# Altium schematic symbol library jlcpcb_2025_04_capacitors_extended_1812.schlib: 342 symbols (part 1 of 7)
Pins are listed as number, name and electrical type; pins without a type are passive.

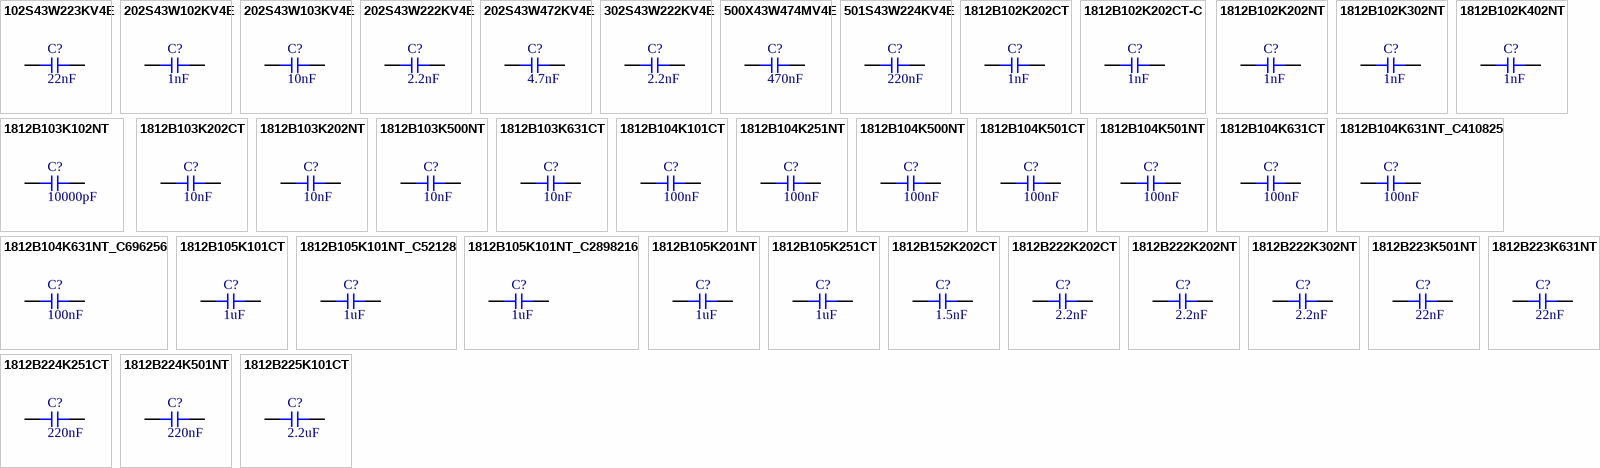
[diagram p0: symbols 102S43W223KV4E to 1812B225K101CT]

## 102S43W223KV4E
designator C?  Capacitance: 22nF  (hidden comment: *)
Capacitor, Ceramic (MLCC), 22nF, ±10%, 1kV, X7R, ±10%, SMD 1812; Manufacturer: Johanson Dielectrics; Manufacturer Part Number: 102S43W223KV4E; Package Size: 1812; JLCPCB Basic Part: No; JLCPCB Part Number: C426627; Supplier 1: LCSC; Category: Capacitors - MLCC; Supplier Part Number 1: C426627; Tolerance: ±10%; Voltage Rating: 1kV; Temperature Coefficient: X7R; RoHS: Yes; ComponentLink1Description: Datasheet; ComponentLink1URL: https://wmsc.lcsc.com/wmsc/upload/file/pdf/v2/lcsc/2304140030_Johanson-Dielectrics-102S43W223KV4E_C426627.pdf; ComponentLink2Description: JLCPCB Part URL; ComponentLink2URL: https://jlcpcb.com/partdetail/C426627; ComponentLink3Description: LCSC Part URL; ComponentLink3URL: https://lcsc.com/product-detail/Multilayer-Ceramic-Capacitors-MLCC---SMD-SMT_Johanson-Dielectrics-Johanson-Dielectrics-102S43W223KV4E_C426627.html
footprint CAP-1812 (1812 (4532M) Capacitor)
pins: 1, 2

## 202S43W102KV4E
designator C?  Capacitance: 1nF  (hidden comment: *)
Capacitor, Ceramic (MLCC), 1nF, ±10%, 2kV, X7R, ±10%, SMD 1812; Manufacturer: Johanson Dielectrics; Manufacturer Part Number: 202S43W102KV4E; Package Size: 1812; JLCPCB Basic Part: No; JLCPCB Part Number: C173229; Supplier 1: LCSC; Category: Capacitors - MLCC; Supplier Part Number 1: C173229; Tolerance: ±10%; Voltage Rating: 2kV; Temperature Coefficient: X7R; RoHS: Yes; ComponentLink1Description: Datasheet; ComponentLink1URL: https://wmsc.lcsc.com/wmsc/upload/file/pdf/v2/lcsc/1809172047_Johanson-Dielectrics-202S43W102KV4E_C173229.pdf; ComponentLink2Description: JLCPCB Part URL; ComponentLink2URL: https://jlcpcb.com/partdetail/C173229; ComponentLink3Description: LCSC Part URL; ComponentLink3URL: https://lcsc.com/product-detail/Multilayer-Ceramic-Capacitors-MLCC---SMD-SMT_Johanson-Dielectrics-Johanson-Dielectrics-202S43W102KV4E_C173229.html
footprint CAP-1812 (1812 (4532M) Capacitor)
pins: 1, 2

## 202S43W103KV4E
designator C?  Capacitance: 10nF  (hidden comment: *)
Capacitor, Ceramic (MLCC), 10nF, ±10%, 2kV, X7R, ±10%, SMD 1812; Manufacturer: Johanson Dielectrics; Manufacturer Part Number: 202S43W103KV4E; Package Size: 1812; JLCPCB Basic Part: No; JLCPCB Part Number: C426626; Supplier 1: LCSC; Category: Capacitors - MLCC; Supplier Part Number 1: C426626; Tolerance: ±10%; Voltage Rating: 2kV; Temperature Coefficient: X7R; RoHS: Yes; ComponentLink1Description: Datasheet; ComponentLink1URL: https://wmsc.lcsc.com/wmsc/upload/file/pdf/v2/lcsc/2304140030_Johanson-Dielectrics-202S43W103KV4E_C426626.pdf; ComponentLink2Description: JLCPCB Part URL; ComponentLink2URL: https://jlcpcb.com/partdetail/C426626; ComponentLink3Description: LCSC Part URL; ComponentLink3URL: https://lcsc.com/product-detail/Multilayer-Ceramic-Capacitors-MLCC---SMD-SMT_Johanson-Dielectrics-Johanson-Dielectrics-202S43W103KV4E_C426626.html
footprint CAP-1812 (1812 (4532M) Capacitor)
pins: 1, 2

## 202S43W222KV4E
designator C?  Capacitance: 2.2nF  (hidden comment: *)
Capacitor, Ceramic (MLCC), 2.2nF, ±10%, 2kV, X7R, ±10%, SMD 1812; Manufacturer: Johanson Dielectrics; Manufacturer Part Number: 202S43W222KV4E; Package Size: 1812; JLCPCB Basic Part: No; JLCPCB Part Number: C426624; Supplier 1: LCSC; Category: Capacitors - MLCC; Supplier Part Number 1: C426624; Tolerance: ±10%; Voltage Rating: 2kV; Temperature Coefficient: X7R; RoHS: Yes; ComponentLink1Description: Datasheet; ComponentLink1URL: https://wmsc.lcsc.com/wmsc/upload/file/pdf/v2/lcsc/2304140030_Johanson-Dielectrics-202S43W222KV4E_C426624.pdf; ComponentLink2Description: JLCPCB Part URL; ComponentLink2URL: https://jlcpcb.com/partdetail/C426624; ComponentLink3Description: LCSC Part URL; ComponentLink3URL: https://lcsc.com/product-detail/Multilayer-Ceramic-Capacitors-MLCC---SMD-SMT_Johanson-Dielectrics-Johanson-Dielectrics-202S43W222KV4E_C426624.html
footprint CAP-1812 (1812 (4532M) Capacitor)
pins: 1, 2

## 202S43W472KV4E
designator C?  Capacitance: 4.7nF  (hidden comment: *)
Capacitor, Ceramic (MLCC), 4.7nF, ±10%, 2kV, X7R, ±10%, SMD 1812; Manufacturer: Johanson Dielectrics; Manufacturer Part Number: 202S43W472KV4E; Package Size: 1812; JLCPCB Basic Part: No; JLCPCB Part Number: C167436; Supplier 1: LCSC; Category: Capacitors - MLCC; Supplier Part Number 1: C167436; Tolerance: ±10%; Voltage Rating: 2kV; Temperature Coefficient: X7R; RoHS: Yes; ComponentLink1Description: Datasheet; ComponentLink1URL: https://wmsc.lcsc.com/wmsc/upload/file/pdf/v2/lcsc/2304140030_Johanson-Dielectrics-202S43W472KV4E_C167436.pdf; ComponentLink2Description: JLCPCB Part URL; ComponentLink2URL: https://jlcpcb.com/partdetail/C167436; ComponentLink3Description: LCSC Part URL; ComponentLink3URL: https://lcsc.com/product-detail/Multilayer-Ceramic-Capacitors-MLCC---SMD-SMT_Johanson-Dielectrics-Johanson-Dielectrics-202S43W472KV4E_C167436.html
footprint CAP-1812 (1812 (4532M) Capacitor)
pins: 1, 2

## 302S43W222KV4E
designator C?  Capacitance: 2.2nF  (hidden comment: *)
Capacitor, Ceramic (MLCC), 2.2nF, ±10%, 3kV, X7R, ±10%, SMD 1812; Manufacturer: Johanson Dielectrics; Manufacturer Part Number: 302S43W222KV4E; Package Size: 1812; JLCPCB Basic Part: No; JLCPCB Part Number: C426625; Supplier 1: LCSC; Category: Capacitors - MLCC; Supplier Part Number 1: C426625; Tolerance: ±10%; Voltage Rating: 3kV; Temperature Coefficient: X7R; RoHS: Yes; ComponentLink1Description: Datasheet; ComponentLink1URL: https://wmsc.lcsc.com/wmsc/upload/file/pdf/v2/lcsc/2304140030_Johanson-Dielectrics-302S43W222KV4E_C426625.pdf; ComponentLink2Description: JLCPCB Part URL; ComponentLink2URL: https://jlcpcb.com/partdetail/C426625; ComponentLink3Description: LCSC Part URL; ComponentLink3URL: https://lcsc.com/product-detail/Multilayer-Ceramic-Capacitors-MLCC---SMD-SMT_Johanson-Dielectrics-Johanson-Dielectrics-302S43W222KV4E_C426625.html
footprint CAP-1812 (1812 (4532M) Capacitor)
pins: 1, 2

## 500X43W474MV4E
designator C?  Capacitance: 470nF  (hidden comment: *)
Capacitor, Ceramic (MLCC), 470nF, ±20%, 50V, X7R, ±20%, SMD 1812; Manufacturer: Johanson Dielectrics; Manufacturer Part Number: 500X43W474MV4E; Package Size: 1812; JLCPCB Basic Part: No; JLCPCB Part Number: C2168087; Supplier 1: LCSC; Category: Capacitors - MLCC; Supplier Part Number 1: C2168087; Tolerance: ±20%; Voltage Rating: 50V; Temperature Coefficient: X7R; RoHS: Yes; ComponentLink1Description: Datasheet; ComponentLink1URL: https://wmsc.lcsc.com/wmsc/upload/file/pdf/v2/lcsc/2304140030_Johanson-Dielectrics-500X43W474MV4E_C2168087.pdf; ComponentLink2Description: JLCPCB Part URL; ComponentLink2URL: https://jlcpcb.com/partdetail/C2168087; ComponentLink3Description: LCSC Part URL; ComponentLink3URL: https://lcsc.com/product-detail/Multilayer-Ceramic-Capacitors-MLCC---SMD-SMT_Johanson-Dielectrics-Johanson-Dielectrics-500X43W474MV4E_C2168087.html
footprint CAP-1812 (1812 (4532M) Capacitor)
pins: 1, 2

## 501S43W224KV4E
designator C?  Capacitance: 220nF  (hidden comment: *)
Capacitor, Ceramic (MLCC), 220nF, ±10%, 500V, X7R, ±10%, SMD 1812; Manufacturer: Johanson Dielectrics; Manufacturer Part Number: 501S43W224KV4E; Package Size: 1812; JLCPCB Basic Part: No; JLCPCB Part Number: C426628; Supplier 1: LCSC; Category: Capacitors - MLCC; Supplier Part Number 1: C426628; Tolerance: ±10%; Voltage Rating: 500V; Temperature Coefficient: X7R; RoHS: Yes; ComponentLink1Description: Datasheet; ComponentLink1URL: https://wmsc.lcsc.com/wmsc/upload/file/pdf/v2/lcsc/2304140030_Johanson-Dielectrics-501S43W224KV4E_C426628.pdf; ComponentLink2Description: JLCPCB Part URL; ComponentLink2URL: https://jlcpcb.com/partdetail/C426628; ComponentLink3Description: LCSC Part URL; ComponentLink3URL: https://lcsc.com/product-detail/Multilayer-Ceramic-Capacitors-MLCC---SMD-SMT_Johanson-Dielectrics-Johanson-Dielectrics-501S43W224KV4E_C426628.html
footprint CAP-1812 (1812 (4532M) Capacitor)
pins: 1, 2

## 1812B102K202CT
designator C?  Capacitance: 1nF  (hidden comment: *)
Capacitor, Ceramic (MLCC), 1nF, ±10%, 2kV, X7R, ±10%, SMD 1812; Manufacturer: Walsin Tech Corp; Manufacturer Part Number: 1812B102K202CT; Package Size: 1812; JLCPCB Basic Part: No; JLCPCB Part Number: C304032; Supplier 1: LCSC; Category: Capacitors - MLCC; Supplier Part Number 1: C304032; Tolerance: ±10%; Voltage Rating: 2kV; Temperature Coefficient: X7R; RoHS: Yes; ComponentLink1Description: Datasheet; ComponentLink1URL: https://wmsc.lcsc.com/wmsc/upload/file/pdf/v2/lcsc/2304231850_Walsin-Tech-Corp-1812B102K202CT_C304032.pdf; ComponentLink2Description: JLCPCB Part URL; ComponentLink2URL: https://jlcpcb.com/partdetail/C304032; ComponentLink3Description: LCSC Part URL; ComponentLink3URL: https://lcsc.com/product-detail/Multilayer-Ceramic-Capacitors-MLCC---SMD-SMT_Walsin-Tech-Corp-Walsin-Tech-Corp-1812B102K202CT_C304032.html
footprint CAP-1812 (1812 (4532M) Capacitor)
pins: 1, 2

## 1812B102K202CT-C
designator C?  Capacitance: 1nF  (hidden comment: *)
Capacitor, Ceramic (MLCC), 1nF, ±10%, 2kV, X7R, ±10%, SMD 1812; Manufacturer: Walsin Tech Corp; Manufacturer Part Number: 1812B102K202CT-C; Package Size: 1812; JLCPCB Basic Part: No; JLCPCB Part Number: C2991364; Supplier 1: LCSC; Category: Capacitors - MLCC; Supplier Part Number 1: C2991364; Tolerance: ±10%; Voltage Rating: 2kV; Temperature Coefficient: X7R; RoHS: Yes; ComponentLink1Description: Datasheet; ComponentLink1URL: https://wmsc.lcsc.com/wmsc/upload/file/pdf/v2/lcsc/2204131745_Walsin-Tech-Corp-1812B102K202CT-C_C2991364.pdf; ComponentLink2Description: JLCPCB Part URL; ComponentLink2URL: https://jlcpcb.com/partdetail/C2991364; ComponentLink3Description: LCSC Part URL; ComponentLink3URL: https://lcsc.com/product-detail/Multilayer-Ceramic-Capacitors-MLCC---SMD-SMT_Walsin-Tech-Corp-Walsin-Tech-Corp-1812B102K202CT-C_C2991364.html
footprint CAP-1812 (1812 (4532M) Capacitor)
pins: 1, 2

## 1812B102K202NT
designator C?  Capacitance: 1nF  (hidden comment: *)
Capacitor, Ceramic (MLCC), 1nF, ±10%, 2kV, X7R, ±10%, SMD 1812; Manufacturer: FH(Guangdong Fenghua Advanced Tech); Manufacturer Part Number: 1812B102K202NT; Package Size: 1812; JLCPCB Basic Part: No; JLCPCB Part Number: C36077; Supplier 1: LCSC; Category: Capacitors - MLCC; Supplier Part Number 1: C36077; Tolerance: ±10%; Voltage Rating: 2kV; Temperature Coefficient: X7R; RoHS: Yes; ComponentLink1Description: Datasheet; ComponentLink1URL: https://wmsc.lcsc.com/wmsc/upload/file/pdf/v2/lcsc/2304140030_FH--Guangdong-Fenghua-Advanced-Tech-1812B102K202NT_C36077.pdf; ComponentLink2Description: JLCPCB Part URL; ComponentLink2URL: https://jlcpcb.com/partdetail/C36077; ComponentLink3Description: LCSC Part URL; ComponentLink3URL: https://lcsc.com/product-detail/Multilayer-Ceramic-Capacitors-MLCC---SMD-SMT_FH-Guangdong-Fenghua-Advanced-Tech-FH-Guangdong-Fenghua-Advanced-Tech-1812B102K202NT_C36077.html
footprint CAP-1812 (1812 (4532M) Capacitor)
pins: 1, 2

## 1812B102K302NT
designator C?  Capacitance: 1nF  (hidden comment: *)
Capacitor, Ceramic (MLCC), 1nF, ±10%, 3kV, X7R, ±10%, SMD 1812; Manufacturer: FH (Guangdong Fenghua Advanced Tech); Manufacturer Part Number: 1812B102K302NT; Package Size: 1812; JLCPCB Basic Part: No; JLCPCB Part Number: C2961281; Supplier 1: LCSC; Category: Capacitors - MLCC; Supplier Part Number 1: C2961281; Tolerance: ±10%; Voltage Rating: 3kV; Temperature Coefficient: X7R; RoHS: Yes; ComponentLink1Description: Datasheet; ComponentLink1URL: https://wmsc.lcsc.com/wmsc/upload/file/pdf/v2/lcsc/2203011530_FH--Guangdong-Fenghua-Advanced-Tech-1812B102K302NT_C2961281.pdf; ComponentLink2Description: JLCPCB Part URL; ComponentLink2URL: https://jlcpcb.com/partdetail/C2961281; ComponentLink3Description: LCSC Part URL; ComponentLink3URL: https://lcsc.com/product-detail/Multilayer-Ceramic-Capacitors-MLCC---SMD-SMT_FH-Guangdong-Fenghua-Advanced-Tech-FH-Guangdong-Fenghua-Advanced-Tech-1812B102K302NT_C2961281.html
footprint CAP-1812 (1812 (4532M) Capacitor)
pins: 1, 2

## 1812B102K402NT
designator C?  Capacitance: 1nF  (hidden comment: *)
Capacitor, Ceramic (MLCC), 1nF, ±10%, 4kV, X7R, ±10%, SMD 1812; Manufacturer: FH(Guangdong Fenghua Advanced Tech); Manufacturer Part Number: 1812B102K402NT; Package Size: 1812; JLCPCB Basic Part: No; JLCPCB Part Number: C182470; Supplier 1: LCSC; Category: Capacitors - MLCC; Supplier Part Number 1: C182470; Tolerance: ±10%; Voltage Rating: 4kV; Temperature Coefficient: X7R; RoHS: Yes; ComponentLink1Description: Datasheet; ComponentLink1URL: https://wmsc.lcsc.com/wmsc/upload/file/pdf/v2/lcsc/1810301121_FH--Guangdong-Fenghua-Advanced-Tech-1812B102K402NT_C182470.pdf; ComponentLink2Description: JLCPCB Part URL; ComponentLink2URL: https://jlcpcb.com/partdetail/C182470; ComponentLink3Description: LCSC Part URL; ComponentLink3URL: https://lcsc.com/product-detail/Multilayer-Ceramic-Capacitors-MLCC---SMD-SMT_FH-Guangdong-Fenghua-Advanced-Tech-FH-Guangdong-Fenghua-Advanced-Tech-1812B102K402NT_C182470.html
footprint CAP-1812 (1812 (4532M) Capacitor)
pins: 1, 2

## 1812B103K102NT
designator C?  Capacitance: 10000pF  (hidden comment: *)
Capacitor, Ceramic (MLCC), 10000pF, ±10%, 1kV, X7R, ±10%, SMD 1812; Manufacturer: FH (Guangdong Fenghua Advanced Tech); Manufacturer Part Number: 1812B103K102NT; Package Size: 1812; JLCPCB Basic Part: No; JLCPCB Part Number: C779668; Supplier 1: LCSC; Category: Capacitors - MLCC; Supplier Part Number 1: C779668; Tolerance: ±10%; Voltage Rating: 1kV; Temperature Coefficient: X7R; RoHS: Yes; ComponentLink1Description: Datasheet; ComponentLink1URL: https://wmsc.lcsc.com/wmsc/upload/file/pdf/v2/lcsc/2304140030_FH--Guangdong-Fenghua-Advanced-Tech-1812B103K102NT_C779668.pdf; ComponentLink2Description: JLCPCB Part URL; ComponentLink2URL: https://jlcpcb.com/partdetail/C779668; ComponentLink3Description: LCSC Part URL; ComponentLink3URL: https://lcsc.com/product-detail/Multilayer-Ceramic-Capacitors-MLCC---SMD-SMT_FH-Guangdong-Fenghua-Advanced-Tech-FH-Guangdong-Fenghua-Advanced-Tech-1812B103K102NT_C779668.html
footprint CAP-1812 (1812 (4532M) Capacitor)
pins: 1, 2

## 1812B103K202CT
designator C?  Capacitance: 10nF  (hidden comment: *)
Capacitor, Ceramic (MLCC), 10nF, ±10%, 2kV, X7R, ±10%, SMD 1812; Manufacturer: Walsin Tech Corp; Manufacturer Part Number: 1812B103K202CT; Package Size: 1812; JLCPCB Basic Part: No; JLCPCB Part Number: C20037; Supplier 1: LCSC; Category: Capacitors - MLCC; Supplier Part Number 1: C20037; Tolerance: ±10%; Voltage Rating: 2kV; Temperature Coefficient: X7R; RoHS: Yes; ComponentLink1Description: Datasheet; ComponentLink2Description: JLCPCB Part URL; ComponentLink2URL: https://jlcpcb.com/partdetail/C20037; ComponentLink3Description: LCSC Part URL; ComponentLink3URL: https://lcsc.com/product-detail/Multilayer-Ceramic-Capacitors-MLCC---SMD-SMT_Walsin-Tech-Corp-Walsin-Tech-Corp-1812B103K202CT_C20037.html
footprint CAP-1812 (1812 (4532M) Capacitor)
pins: 1, 2

## 1812B103K202NT
designator C?  Capacitance: 10nF  (hidden comment: *)
Capacitor, Ceramic (MLCC), 10nF, ±10%, 2kV, X7R, ±10%, SMD 1812; Manufacturer: FH(Guangdong Fenghua Advanced Tech); Manufacturer Part Number: 1812B103K202NT; Package Size: 1812; JLCPCB Basic Part: No; JLCPCB Part Number: C574051; Supplier 1: LCSC; Category: Capacitors - MLCC; Supplier Part Number 1: C574051; Tolerance: ±10%; Voltage Rating: 2kV; Temperature Coefficient: X7R; RoHS: Yes; ComponentLink1Description: Datasheet; ComponentLink1URL: https://wmsc.lcsc.com/wmsc/upload/file/pdf/v2/lcsc/2304140030_FH--Guangdong-Fenghua-Advanced-Tech-1812B103K202NT_C574051.pdf; ComponentLink2Description: JLCPCB Part URL; ComponentLink2URL: https://jlcpcb.com/partdetail/C574051; ComponentLink3Description: LCSC Part URL; ComponentLink3URL: https://lcsc.com/product-detail/Multilayer-Ceramic-Capacitors-MLCC---SMD-SMT_FH-Guangdong-Fenghua-Advanced-Tech-FH-Guangdong-Fenghua-Advanced-Tech-1812B103K202NT_C574051.html
footprint CAP-1812 (1812 (4532M) Capacitor)
pins: 1, 2

## 1812B103K500NT
designator C?  Capacitance: 10nF  (hidden comment: *)
Capacitor, Ceramic (MLCC), 10nF, ±10%, 50V, ±10%, SMD 1812; Manufacturer: FH(Guangdong Fenghua Advanced Tech); Manufacturer Part Number: 1812B103K500NT; Package Size: 1812; JLCPCB Basic Part: No; JLCPCB Part Number: C967611; Supplier 1: LCSC; Category: Capacitors - MLCC; Supplier Part Number 1: C967611; Tolerance: ±10%; Voltage Rating: 50V; RoHS: Yes; ComponentLink1Description: Datasheet; ComponentLink1URL: https://wmsc.lcsc.com/wmsc/upload/file/pdf/v2/lcsc/2304140030_FH--Guangdong-Fenghua-Advanced-Tech-1812B103K500NT_C967611.pdf; ComponentLink2Description: JLCPCB Part URL; ComponentLink2URL: https://jlcpcb.com/partdetail/C967611; ComponentLink3Description: LCSC Part URL; ComponentLink3URL: https://lcsc.com/product-detail/Multilayer-Ceramic-Capacitors-MLCC---SMD-SMT_FH-Guangdong-Fenghua-Advanced-Tech-FH-Guangdong-Fenghua-Advanced-Tech-1812B103K500NT_C967611.html
footprint CAP-1812 (1812 (4532M) Capacitor)
pins: 1, 2

## 1812B103K631CT
designator C?  Capacitance: 10nF  (hidden comment: *)
Capacitor, Ceramic (MLCC), 10nF, ±10%, 630V, X7R, ±10%, SMD 1812; Manufacturer: Walsin Tech Corp; Manufacturer Part Number: 1812B103K631CT; Package Size: 1812; JLCPCB Basic Part: No; JLCPCB Part Number: C304033; Supplier 1: LCSC; Category: Capacitors - MLCC; Supplier Part Number 1: C304033; Tolerance: ±10%; Voltage Rating: 630V; Temperature Coefficient: X7R; RoHS: Yes; ComponentLink1Description: Datasheet; ComponentLink1URL: https://wmsc.lcsc.com/wmsc/upload/file/pdf/v2/lcsc/2304231850_Walsin-Tech-Corp-1812B103K631CT_C304033.pdf; ComponentLink2Description: JLCPCB Part URL; ComponentLink2URL: https://jlcpcb.com/partdetail/C304033; ComponentLink3Description: LCSC Part URL; ComponentLink3URL: https://lcsc.com/product-detail/Multilayer-Ceramic-Capacitors-MLCC---SMD-SMT_Walsin-Tech-Corp-Walsin-Tech-Corp-1812B103K631CT_C304033.html
footprint CAP-1812 (1812 (4532M) Capacitor)
pins: 1, 2

## 1812B104K101CT
designator C?  Capacitance: 100nF  (hidden comment: *)
Capacitor, Ceramic (MLCC), 100nF, ±10%, 100V, X7R, ±10%, SMD 1812; Manufacturer: Walsin Tech Corp; Manufacturer Part Number: 1812B104K101CT; Package Size: 1812; JLCPCB Basic Part: No; JLCPCB Part Number: C152995; Supplier 1: LCSC; Category: Capacitors - MLCC; Supplier Part Number 1: C152995; Tolerance: ±10%; Voltage Rating: 100V; Temperature Coefficient: X7R; RoHS: Yes; ComponentLink1Description: Datasheet; ComponentLink1URL: https://wmsc.lcsc.com/wmsc/upload/file/pdf/v2/lcsc/2304140030_Walsin-Tech-Corp-1812B104K101CT_C152995.pdf; ComponentLink2Description: JLCPCB Part URL; ComponentLink2URL: https://jlcpcb.com/partdetail/C152995; ComponentLink3Description: LCSC Part URL; ComponentLink3URL: https://lcsc.com/product-detail/Multilayer-Ceramic-Capacitors-MLCC---SMD-SMT_Walsin-Tech-Corp-Walsin-Tech-Corp-1812B104K101CT_C152995.html
footprint CAP-1812 (1812 (4532M) Capacitor)
pins: 1, 2

## 1812B104K251NT
designator C?  Capacitance: 100nF  (hidden comment: *)
Capacitor, Ceramic (MLCC), 100nF, ±10%, 250V, X7R, ±10%, SMD 1812; Manufacturer: FH(Guangdong Fenghua Advanced Tech); Manufacturer Part Number: 1812B104K251NT; Package Size: 1812; JLCPCB Basic Part: No; JLCPCB Part Number: C67989; Supplier 1: LCSC; Category: Capacitors - MLCC; Supplier Part Number 1: C67989; Tolerance: ±10%; Voltage Rating: 250V; Temperature Coefficient: X7R; RoHS: Yes; ComponentLink1Description: Datasheet; ComponentLink1URL: https://wmsc.lcsc.com/wmsc/upload/file/pdf/v2/lcsc/2304140030_FH--Guangdong-Fenghua-Advanced-Tech-1812B104K251NT_C67989.pdf; ComponentLink2Description: JLCPCB Part URL; ComponentLink2URL: https://jlcpcb.com/partdetail/C67989; ComponentLink3Description: LCSC Part URL; ComponentLink3URL: https://lcsc.com/product-detail/Multilayer-Ceramic-Capacitors-MLCC---SMD-SMT_FH-Guangdong-Fenghua-Advanced-Tech-FH-Guangdong-Fenghua-Advanced-Tech-1812B104K251NT_C67989.html
footprint CAP-1812 (1812 (4532M) Capacitor)
pins: 1, 2

## 1812B104K500NT
designator C?  Capacitance: 100nF  (hidden comment: *)
Capacitor, Ceramic (MLCC), 100nF, ±10%, 50V, ±10%, SMD 1812; Manufacturer: FH (Guangdong Fenghua Advanced Tech); Manufacturer Part Number: 1812B104K500NT; Package Size: 1812; JLCPCB Basic Part: No; JLCPCB Part Number: C967612; Supplier 1: LCSC; Category: Capacitors - MLCC; Supplier Part Number 1: C967612; Tolerance: ±10%; Voltage Rating: 50V; RoHS: Yes; ComponentLink1Description: Datasheet; ComponentLink1URL: https://wmsc.lcsc.com/wmsc/upload/file/pdf/v2/lcsc/2304140030_FH--Guangdong-Fenghua-Advanced-Tech-1812B104K500NT_C967612.pdf; ComponentLink2Description: JLCPCB Part URL; ComponentLink2URL: https://jlcpcb.com/partdetail/C967612; ComponentLink3Description: LCSC Part URL; ComponentLink3URL: https://lcsc.com/product-detail/Multilayer-Ceramic-Capacitors-MLCC---SMD-SMT_FH-Guangdong-Fenghua-Advanced-Tech-FH-Guangdong-Fenghua-Advanced-Tech-1812B104K500NT_C967612.html
footprint CAP-1812 (1812 (4532M) Capacitor)
pins: 1, 2

## 1812B104K501CT
designator C?  Capacitance: 100nF  (hidden comment: *)
Capacitor, Ceramic (MLCC), 100nF, ±10%, 500V, X7R, ±10%, SMD 1812; Manufacturer: Walsin Tech Corp; Manufacturer Part Number: 1812B104K501CT; Package Size: 1812; JLCPCB Basic Part: No; JLCPCB Part Number: C396818; Supplier 1: LCSC; Category: Capacitors - MLCC; Supplier Part Number 1: C396818; Tolerance: ±10%; Voltage Rating: 500V; Temperature Coefficient: X7R; RoHS: Yes; ComponentLink1Description: Datasheet; ComponentLink1URL: https://wmsc.lcsc.com/wmsc/upload/file/pdf/v2/lcsc/2304140030_Walsin-Tech-Corp-1812B104K501CT_C396818.pdf; ComponentLink2Description: JLCPCB Part URL; ComponentLink2URL: https://jlcpcb.com/partdetail/C396818; ComponentLink3Description: LCSC Part URL; ComponentLink3URL: https://lcsc.com/product-detail/Multilayer-Ceramic-Capacitors-MLCC---SMD-SMT_Walsin-Tech-Corp-Walsin-Tech-Corp-1812B104K501CT_C396818.html
footprint CAP-1812 (1812 (4532M) Capacitor)
pins: 1, 2

## 1812B104K501NT
designator C?  Capacitance: 100nF  (hidden comment: *)
Capacitor, Ceramic (MLCC), 100nF, ±10%, 500V, X7R, ±10%, SMD 1812; Manufacturer: FH (Guangdong Fenghua Advanced Tech); Manufacturer Part Number: 1812B104K501NT; Package Size: 1812; JLCPCB Basic Part: No; JLCPCB Part Number: C3037684; Supplier 1: LCSC; Category: Capacitors - MLCC; Supplier Part Number 1: C3037684; Tolerance: ±10%; Voltage Rating: 500V; Temperature Coefficient: X7R; RoHS: Yes; ComponentLink1Description: Datasheet; ComponentLink1URL: https://wmsc.lcsc.com/wmsc/upload/file/pdf/v2/lcsc/2206171645_FH--Guangdong-Fenghua-Advanced-Tech-1812B104K501NT_C3037684.pdf; ComponentLink2Description: JLCPCB Part URL; ComponentLink2URL: https://jlcpcb.com/partdetail/C3037684; ComponentLink3Description: LCSC Part URL; ComponentLink3URL: https://lcsc.com/product-detail/Multilayer-Ceramic-Capacitors-MLCC---SMD-SMT_FH-Guangdong-Fenghua-Advanced-Tech-FH-Guangdong-Fenghua-Advanced-Tech-1812B104K501NT_C3037684.html
footprint CAP-1812 (1812 (4532M) Capacitor)
pins: 1, 2

## 1812B104K631CT
designator C?  Capacitance: 100nF  (hidden comment: *)
Capacitor, Ceramic (MLCC), 100nF, ±10%, 630V, X7R, ±10%, SMD 1812; Manufacturer: Walsin Tech Corp; Manufacturer Part Number: 1812B104K631CT; Package Size: 1812; JLCPCB Basic Part: No; JLCPCB Part Number: C304034; Supplier 1: LCSC; Category: Capacitors - MLCC; Supplier Part Number 1: C304034; Tolerance: ±10%; Voltage Rating: 630V; Temperature Coefficient: X7R; RoHS: Yes; ComponentLink1Description: Datasheet; ComponentLink1URL: https://wmsc.lcsc.com/wmsc/upload/file/pdf/v2/lcsc/2304231850_Walsin-Tech-Corp-1812B104K631CT_C304034.pdf; ComponentLink2Description: JLCPCB Part URL; ComponentLink2URL: https://jlcpcb.com/partdetail/C304034; ComponentLink3Description: LCSC Part URL; ComponentLink3URL: https://lcsc.com/product-detail/Multilayer-Ceramic-Capacitors-MLCC---SMD-SMT_Walsin-Tech-Corp-Walsin-Tech-Corp-1812B104K631CT_C304034.html
footprint CAP-1812 (1812 (4532M) Capacitor)
pins: 1, 2

## 1812B104K631NT_C410825
designator C?  Capacitance: 100nF  (hidden comment: *)
Capacitor, Ceramic (MLCC), 100nF, ±10%, 630V, X7R, ±10%, SMD 1812; Manufacturer: FH(Guangdong Fenghua Advanced Tech); Manufacturer Part Number: 1812B104K631NT; Package Size: 1812; JLCPCB Basic Part: No; JLCPCB Part Number: C410825; Supplier 1: LCSC; Category: Capacitors - MLCC; Supplier Part Number 1: C410825; Tolerance: ±10%; Voltage Rating: 630V; Temperature Coefficient: X7R; RoHS: Yes; ComponentLink1Description: Datasheet; ComponentLink1URL: https://wmsc.lcsc.com/wmsc/upload/file/pdf/v2/lcsc/2304140030_FH--Guangdong-Fenghua-Advanced-Tech-1812B104K631NT_C410825.pdf; ComponentLink2Description: JLCPCB Part URL; ComponentLink2URL: https://jlcpcb.com/partdetail/C410825; ComponentLink3Description: LCSC Part URL; ComponentLink3URL: https://lcsc.com/product-detail/Multilayer-Ceramic-Capacitors-MLCC---SMD-SMT_FH-Guangdong-Fenghua-Advanced-Tech-FH-Guangdong-Fenghua-Advanced-Tech-1812B104K631NT_C410825.html
footprint CAP-1812 (1812 (4532M) Capacitor)
pins: 1, 2

## 1812B104K631NT_C696256
designator C?  Capacitance: 100nF  (hidden comment: *)
Capacitor, Ceramic (MLCC), 100nF, ±10%, 630V, X7R, ±10%, SMD 1812; Manufacturer: FH(Guangdong Fenghua Advanced Tech); Manufacturer Part Number: 1812B104K631NT; Package Size: 1812; JLCPCB Basic Part: No; JLCPCB Part Number: C696256; Supplier 1: LCSC; Category: Capacitors - MLCC; Supplier Part Number 1: C696256; Tolerance: ±10%; Voltage Rating: 630V; Temperature Coefficient: X7R; RoHS: Yes; ComponentLink1Description: Datasheet; ComponentLink1URL: https://wmsc.lcsc.com/wmsc/upload/file/pdf/v2/lcsc/2304140030_FH--Guangdong-Fenghua-Advanced-Tech-1812B104K631NT_C696256.pdf; ComponentLink2Description: JLCPCB Part URL; ComponentLink2URL: https://jlcpcb.com/partdetail/C696256; ComponentLink3Description: LCSC Part URL; ComponentLink3URL: https://lcsc.com/product-detail/Multilayer-Ceramic-Capacitors-MLCC---SMD-SMT_FH-Guangdong-Fenghua-Advanced-Tech-FH-Guangdong-Fenghua-Advanced-Tech-1812B104K631NT_C696256.html
footprint CAP-1812 (1812 (4532M) Capacitor)
pins: 1, 2

## 1812B105K101CT
designator C?  Capacitance: 1uF  (hidden comment: *)
Capacitor, Ceramic (MLCC), 1uF, ±10%, 100V, X7R, ±10%, SMD 1812; Manufacturer: Walsin Tech Corp; Manufacturer Part Number: 1812B105K101CT; Package Size: 1812; JLCPCB Basic Part: No; JLCPCB Part Number: C575465; Supplier 1: LCSC; Category: Capacitors - MLCC; Supplier Part Number 1: C575465; Tolerance: ±10%; Voltage Rating: 100V; Temperature Coefficient: X7R; RoHS: Yes; ComponentLink1Description: Datasheet; ComponentLink1URL: https://wmsc.lcsc.com/wmsc/upload/file/pdf/v2/lcsc/2304140030_Walsin-Tech-Corp-1812B105K101CT_C575465.pdf; ComponentLink2Description: JLCPCB Part URL; ComponentLink2URL: https://jlcpcb.com/partdetail/C575465; ComponentLink3Description: LCSC Part URL; ComponentLink3URL: https://lcsc.com/product-detail/Multilayer-Ceramic-Capacitors-MLCC---SMD-SMT_Walsin-Tech-Corp-Walsin-Tech-Corp-1812B105K101CT_C575465.html
footprint CAP-1812 (1812 (4532M) Capacitor)
pins: 1, 2

## 1812B105K101NT_C52128
designator C?  Capacitance: 1uF  (hidden comment: *)
Capacitor, Ceramic (MLCC), 1uF, ±10%, 100V, X7R, ±10%, SMD 1812; Manufacturer: FH(Guangdong Fenghua Advanced Tech); Manufacturer Part Number: 1812B105K101NT; Package Size: 1812; JLCPCB Basic Part: No; JLCPCB Part Number: C52128; Supplier 1: LCSC; Category: Capacitors - MLCC; Supplier Part Number 1: C52128; Tolerance: ±10%; Voltage Rating: 100V; Temperature Coefficient: X7R; RoHS: Yes; ComponentLink1Description: Datasheet; ComponentLink1URL: https://wmsc.lcsc.com/wmsc/upload/file/pdf/v2/lcsc/2304140030_FH--Guangdong-Fenghua-Advanced-Tech-1812B105K101NT_C52128.pdf; ComponentLink2Description: JLCPCB Part URL; ComponentLink2URL: https://jlcpcb.com/partdetail/C52128; ComponentLink3Description: LCSC Part URL; ComponentLink3URL: https://lcsc.com/product-detail/Multilayer-Ceramic-Capacitors-MLCC---SMD-SMT_FH-Guangdong-Fenghua-Advanced-Tech-FH-Guangdong-Fenghua-Advanced-Tech-1812B105K101NT_C52128.html
footprint CAP-1812 (1812 (4532M) Capacitor)
pins: 1, 2

## 1812B105K101NT_C2898216
designator C?  Capacitance: 1uF  (hidden comment: *)
Capacitor, Ceramic (MLCC), 1uF, ±10%, 100V, X7R, ±10%, SMD 1812; Manufacturer: FH (Guangdong Fenghua Advanced Tech); Manufacturer Part Number: 1812B105K101NT; Package Size: 1812; JLCPCB Basic Part: No; JLCPCB Part Number: C2898216; Supplier 1: LCSC; Category: Capacitors - MLCC; Supplier Part Number 1: C2898216; Tolerance: ±10%; Voltage Rating: 100V; Temperature Coefficient: X7R; RoHS: Yes; ComponentLink1Description: Datasheet; ComponentLink1URL: https://wmsc.lcsc.com/wmsc/upload/file/pdf/v2/lcsc/2109152030_FH--Guangdong-Fenghua-Advanced-Tech-1812B105K101NT_C2898216.pdf; ComponentLink2Description: JLCPCB Part URL; ComponentLink2URL: https://jlcpcb.com/partdetail/C2898216; ComponentLink3Description: LCSC Part URL; ComponentLink3URL: https://lcsc.com/product-detail/Multilayer-Ceramic-Capacitors-MLCC---SMD-SMT_FH-Guangdong-Fenghua-Advanced-Tech-FH-Guangdong-Fenghua-Advanced-Tech-1812B105K101NT_C2898216.html
footprint CAP-1812 (1812 (4532M) Capacitor)
pins: 1, 2

## 1812B105K201NT
designator C?  Capacitance: 1uF  (hidden comment: *)
Capacitor, Ceramic (MLCC), 1uF, ±10%, 200V, X7R, ±10%, SMD 1812; Manufacturer: FH (Guangdong Fenghua Advanced Tech); Manufacturer Part Number: 1812B105K201NT; Package Size: 1812; JLCPCB Basic Part: No; JLCPCB Part Number: C3037685; Supplier 1: LCSC; Category: Capacitors - MLCC; Supplier Part Number 1: C3037685; Tolerance: ±10%; Voltage Rating: 200V; Temperature Coefficient: X7R; RoHS: Yes; ComponentLink1Description: Datasheet; ComponentLink1URL: https://wmsc.lcsc.com/wmsc/upload/file/pdf/v2/lcsc/2206171645_FH--Guangdong-Fenghua-Advanced-Tech-1812B105K201NT_C3037685.pdf; ComponentLink2Description: JLCPCB Part URL; ComponentLink2URL: https://jlcpcb.com/partdetail/C3037685; ComponentLink3Description: LCSC Part URL; ComponentLink3URL: https://lcsc.com/product-detail/Multilayer-Ceramic-Capacitors-MLCC---SMD-SMT_FH-Guangdong-Fenghua-Advanced-Tech-FH-Guangdong-Fenghua-Advanced-Tech-1812B105K201NT_C3037685.html
footprint CAP-1812 (1812 (4532M) Capacitor)
pins: 1, 2

## 1812B105K251CT
designator C?  Capacitance: 1uF  (hidden comment: *)
Capacitor, Ceramic (MLCC), 1uF, ±10%, 250V, X7R, ±10%, SMD 1812; Manufacturer: Walsin Tech Corp; Manufacturer Part Number: 1812B105K251CT; Package Size: 1812; JLCPCB Basic Part: No; JLCPCB Part Number: C880758; Supplier 1: LCSC; Category: Capacitors - MLCC; Supplier Part Number 1: C880758; Tolerance: ±10%; Voltage Rating: 250V; Temperature Coefficient: X7R; RoHS: Yes; ComponentLink1Description: Datasheet; ComponentLink1URL: https://wmsc.lcsc.com/wmsc/upload/file/pdf/v2/lcsc/2304140030_Walsin-Tech-Corp-1812B105K251CT_C880758.pdf; ComponentLink2Description: JLCPCB Part URL; ComponentLink2URL: https://jlcpcb.com/partdetail/C880758; ComponentLink3Description: LCSC Part URL; ComponentLink3URL: https://lcsc.com/product-detail/Multilayer-Ceramic-Capacitors-MLCC---SMD-SMT_Walsin-Tech-Corp-Walsin-Tech-Corp-1812B105K251CT_C880758.html
footprint CAP-1812 (1812 (4532M) Capacitor)
pins: 1, 2

## 1812B152K202CT
designator C?  Capacitance: 1.5nF  (hidden comment: *)
Capacitor, Ceramic (MLCC), 1.5nF, ±10%, 2kV, X7R, ±10%, SMD 1812; Manufacturer: Walsin Tech Corp; Manufacturer Part Number: 1812B152K202CT; Package Size: 1812; JLCPCB Basic Part: No; JLCPCB Part Number: C3876303; Supplier 1: LCSC; Category: Capacitors - MLCC; Supplier Part Number 1: C3876303; Tolerance: ±10%; Voltage Rating: 2kV; Temperature Coefficient: X7R; RoHS: Yes; ComponentLink1Description: Datasheet; ComponentLink1URL: https://wmsc.lcsc.com/wmsc/upload/file/pdf/v2/lcsc/2401181529_Walsin-Tech-Corp-1812B152K202CT_C3876303.pdf; ComponentLink2Description: JLCPCB Part URL; ComponentLink2URL: https://jlcpcb.com/partdetail/C3876303; ComponentLink3Description: LCSC Part URL; ComponentLink3URL: https://lcsc.com/product-detail/Multilayer-Ceramic-Capacitors-MLCC---SMD-SMT_Walsin-Tech-Corp-Walsin-Tech-Corp-1812B152K202CT_C3876303.html
footprint CAP-1812 (1812 (4532M) Capacitor)
pins: 1, 2

## 1812B222K202CT
designator C?  Capacitance: 2.2nF  (hidden comment: *)
Capacitor, Ceramic (MLCC), 2.2nF, ±10%, 2kV, X7R, ±10%, SMD 1812; Manufacturer: Walsin Tech Corp; Manufacturer Part Number: 1812B222K202CT; Package Size: 1812; JLCPCB Basic Part: No; JLCPCB Part Number: C525509; Supplier 1: LCSC; Category: Capacitors - MLCC; Supplier Part Number 1: C525509; Tolerance: ±10%; Voltage Rating: 2kV; Temperature Coefficient: X7R; RoHS: Yes; ComponentLink1Description: Datasheet; ComponentLink1URL: https://wmsc.lcsc.com/wmsc/upload/file/pdf/v2/lcsc/2304140030_Walsin-Tech-Corp-1812B222K202CT_C525509.pdf; ComponentLink2Description: JLCPCB Part URL; ComponentLink2URL: https://jlcpcb.com/partdetail/C525509; ComponentLink3Description: LCSC Part URL; ComponentLink3URL: https://lcsc.com/product-detail/Multilayer-Ceramic-Capacitors-MLCC---SMD-SMT_Walsin-Tech-Corp-Walsin-Tech-Corp-1812B222K202CT_C525509.html
footprint CAP-1812 (1812 (4532M) Capacitor)
pins: 1, 2

## 1812B222K202NT
designator C?  Capacitance: 2.2nF  (hidden comment: *)
Capacitor, Ceramic (MLCC), 2.2nF, ±10%, 2kV, X7R, ±10%, SMD 1812; Manufacturer: FH(Guangdong Fenghua Advanced Tech); Manufacturer Part Number: 1812B222K202NT; Package Size: 1812; JLCPCB Basic Part: No; JLCPCB Part Number: C24544; Supplier 1: LCSC; Category: Capacitors - MLCC; Supplier Part Number 1: C24544; Tolerance: ±10%; Voltage Rating: 2kV; Temperature Coefficient: X7R; RoHS: Yes; ComponentLink1Description: Datasheet; ComponentLink1URL: https://wmsc.lcsc.com/wmsc/upload/file/pdf/v2/lcsc/2304140030_FH--Guangdong-Fenghua-Advanced-Tech-1812B222K202NT_C24544.pdf; ComponentLink2Description: JLCPCB Part URL; ComponentLink2URL: https://jlcpcb.com/partdetail/C24544; ComponentLink3Description: LCSC Part URL; ComponentLink3URL: https://lcsc.com/product-detail/Multilayer-Ceramic-Capacitors-MLCC---SMD-SMT_FH-Guangdong-Fenghua-Advanced-Tech-FH-Guangdong-Fenghua-Advanced-Tech-1812B222K202NT_C24544.html
footprint CAP-1812 (1812 (4532M) Capacitor)
pins: 1, 2

## 1812B222K302NT
designator C?  Capacitance: 2.2nF  (hidden comment: *)
Capacitor, Ceramic (MLCC), 2.2nF, 3kV, X7R, SMD 1812; Manufacturer: FH(Guangdong Fenghua Advanced Tech); Manufacturer Part Number: 1812B222K302NT; Package Size: 1812; JLCPCB Basic Part: No; JLCPCB Part Number: C2961284; Supplier 1: LCSC; Category: Capacitors - MLCC; Supplier Part Number 1: C2961284; Voltage Rating: 3kV; Temperature Coefficient: X7R; RoHS: Yes; ComponentLink1Description: Datasheet; ComponentLink1URL: https://wmsc.lcsc.com/wmsc/upload/file/pdf/v2/lcsc/2201211500_FH--Guangdong-Fenghua-Advanced-Tech-1812B222K302NT_C2961284.pdf; ComponentLink2Description: JLCPCB Part URL; ComponentLink2URL: https://jlcpcb.com/partdetail/C2961284; ComponentLink3Description: LCSC Part URL; ComponentLink3URL: https://lcsc.com/product-detail/Multilayer-Ceramic-Capacitors-MLCC---SMD-SMT_FH-Guangdong-Fenghua-Advanced-Tech-FH-Guangdong-Fenghua-Advanced-Tech-1812B222K302NT_C2961284.html
footprint CAP-1812 (1812 (4532M) Capacitor)
pins: 1, 2

## 1812B223K501NT
designator C?  Capacitance: 22nF  (hidden comment: *)
Capacitor, Ceramic (MLCC), 22nF, ±10%, 500V, X7R, ±10%, SMD 1812; Manufacturer: FH(Guangdong Fenghua Advanced Tech); Manufacturer Part Number: 1812B223K501NT; Package Size: 1812; JLCPCB Basic Part: No; JLCPCB Part Number: C65090; Supplier 1: LCSC; Category: Capacitors - MLCC; Supplier Part Number 1: C65090; Tolerance: ±10%; Voltage Rating: 500V; Temperature Coefficient: X7R; RoHS: Yes; ComponentLink1Description: Datasheet; ComponentLink1URL: https://wmsc.lcsc.com/wmsc/upload/file/pdf/v2/lcsc/2304140030_FH--Guangdong-Fenghua-Advanced-Tech-1812B223K501NT_C65090.pdf; ComponentLink2Description: JLCPCB Part URL; ComponentLink2URL: https://jlcpcb.com/partdetail/C65090; ComponentLink3Description: LCSC Part URL; ComponentLink3URL: https://lcsc.com/product-detail/Multilayer-Ceramic-Capacitors-MLCC---SMD-SMT_FH-Guangdong-Fenghua-Advanced-Tech-FH-Guangdong-Fenghua-Advanced-Tech-1812B223K501NT_C65090.html
footprint CAP-1812 (1812 (4532M) Capacitor)
pins: 1, 2

## 1812B223K631NT
designator C?  Capacitance: 22nF  (hidden comment: *)
Capacitor, Ceramic (MLCC), 22nF, ±10%, 630V, X7R, ±10%, SMD 1812; Manufacturer: FH (Guangdong Fenghua Advanced Tech); Manufacturer Part Number: 1812B223K631NT; Package Size: 1812; JLCPCB Basic Part: No; JLCPCB Part Number: C3037686; Supplier 1: LCSC; Category: Capacitors - MLCC; Supplier Part Number 1: C3037686; Tolerance: ±10%; Voltage Rating: 630V; Temperature Coefficient: X7R; RoHS: Yes; ComponentLink1Description: Datasheet; ComponentLink1URL: https://wmsc.lcsc.com/wmsc/upload/file/pdf/v2/lcsc/2206171645_FH--Guangdong-Fenghua-Advanced-Tech-1812B223K631NT_C3037686.pdf; ComponentLink2Description: JLCPCB Part URL; ComponentLink2URL: https://jlcpcb.com/partdetail/C3037686; ComponentLink3Description: LCSC Part URL; ComponentLink3URL: https://lcsc.com/product-detail/Multilayer-Ceramic-Capacitors-MLCC---SMD-SMT_FH-Guangdong-Fenghua-Advanced-Tech-FH-Guangdong-Fenghua-Advanced-Tech-1812B223K631NT_C3037686.html
footprint CAP-1812 (1812 (4532M) Capacitor)
pins: 1, 2

## 1812B224K251CT
designator C?  Capacitance: 220nF  (hidden comment: *)
Capacitor, Ceramic (MLCC), 220nF, ±10%, 250V, X7R, ±10%, SMD 1812; Manufacturer: Walsin Tech Corp; Manufacturer Part Number: 1812B224K251CT; Package Size: 1812; JLCPCB Basic Part: No; JLCPCB Part Number: C384709; Supplier 1: LCSC; Category: Capacitors - MLCC; Supplier Part Number 1: C384709; Tolerance: ±10%; Voltage Rating: 250V; Temperature Coefficient: X7R; RoHS: Yes; ComponentLink1Description: Datasheet; ComponentLink1URL: https://wmsc.lcsc.com/wmsc/upload/file/pdf/v2/lcsc/2304140030_Walsin-Tech-Corp-1812B224K251CT_C384709.pdf; ComponentLink2Description: JLCPCB Part URL; ComponentLink2URL: https://jlcpcb.com/partdetail/C384709; ComponentLink3Description: LCSC Part URL; ComponentLink3URL: https://lcsc.com/product-detail/Multilayer-Ceramic-Capacitors-MLCC---SMD-SMT_Walsin-Tech-Corp-Walsin-Tech-Corp-1812B224K251CT_C384709.html
footprint CAP-1812 (1812 (4532M) Capacitor)
pins: 1, 2

## 1812B224K501NT
designator C?  Capacitance: 220nF  (hidden comment: *)
Capacitor, Ceramic (MLCC), 220nF, ±10%, 500V, X7R, ±10%, SMD 1812; Manufacturer: FH (Guangdong Fenghua Advanced Tech); Manufacturer Part Number: 1812B224K501NT; Package Size: 1812; JLCPCB Basic Part: No; JLCPCB Part Number: C3037688; Supplier 1: LCSC; Category: Capacitors - MLCC; Supplier Part Number 1: C3037688; Tolerance: ±10%; Voltage Rating: 500V; Temperature Coefficient: X7R; RoHS: Yes; ComponentLink1Description: Datasheet; ComponentLink1URL: https://wmsc.lcsc.com/wmsc/upload/file/pdf/v2/lcsc/2206171645_FH--Guangdong-Fenghua-Advanced-Tech-1812B224K501NT_C3037688.pdf; ComponentLink2Description: JLCPCB Part URL; ComponentLink2URL: https://jlcpcb.com/partdetail/C3037688; ComponentLink3Description: LCSC Part URL; ComponentLink3URL: https://lcsc.com/product-detail/Multilayer-Ceramic-Capacitors-MLCC---SMD-SMT_FH-Guangdong-Fenghua-Advanced-Tech-FH-Guangdong-Fenghua-Advanced-Tech-1812B224K501NT_C3037688.html
footprint CAP-1812 (1812 (4532M) Capacitor)
pins: 1, 2

## 1812B225K101CT
designator C?  Capacitance: 2.2uF  (hidden comment: *)
Capacitor, Ceramic (MLCC), 2.2uF, ±10%, 100V, X7R, ±10%, SMD 1812; Manufacturer: Walsin Tech Corp; Manufacturer Part Number: 1812B225K101CT; Package Size: 1812; JLCPCB Basic Part: No; JLCPCB Part Number: C2594320; Supplier 1: LCSC; Category: Capacitors - MLCC; Supplier Part Number 1: C2594320; Tolerance: ±10%; Voltage Rating: 100V; Temperature Coefficient: X7R; RoHS: Yes; ComponentLink1Description: Datasheet; ComponentLink1URL: https://wmsc.lcsc.com/wmsc/upload/file/pdf/v2/lcsc/2401181241_Walsin-Tech-Corp-1812B225K101CT_C2594320.pdf; ComponentLink2Description: JLCPCB Part URL; ComponentLink2URL: https://jlcpcb.com/partdetail/C2594320; ComponentLink3Description: LCSC Part URL; ComponentLink3URL: https://lcsc.com/product-detail/Multilayer-Ceramic-Capacitors-MLCC---SMD-SMT_Walsin-Tech-Corp-Walsin-Tech-Corp-1812B225K101CT_C2594320.html
footprint CAP-1812 (1812 (4532M) Capacitor)
pins: 1, 2

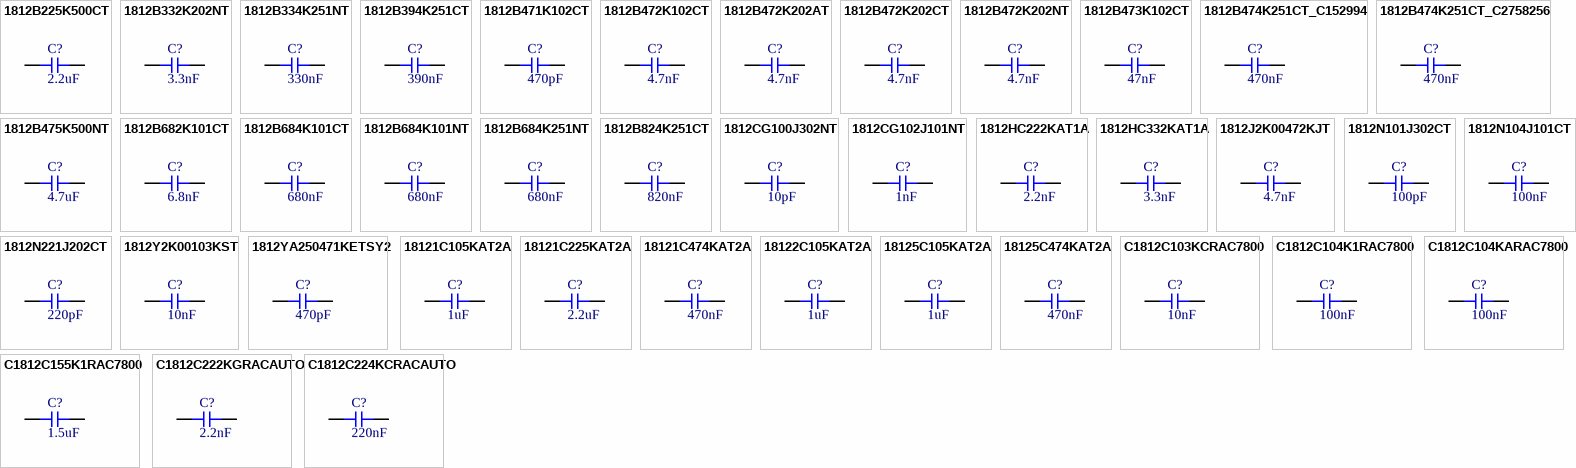
[diagram p1: symbols 1812B225K500CT to C1812C224KCRACAUTO]

## 1812B225K500CT
designator C?  Capacitance: 2.2uF  (hidden comment: *)
Capacitor, Ceramic (MLCC), 2.2uF, ±10%, 50V, X7R, ±10%, SMD 1812; Manufacturer: Walsin Tech Corp; Manufacturer Part Number: 1812B225K500CT; Package Size: 1812; JLCPCB Basic Part: No; JLCPCB Part Number: C396819; Supplier 1: LCSC; Category: Capacitors - MLCC; Supplier Part Number 1: C396819; Tolerance: ±10%; Voltage Rating: 50V; Temperature Coefficient: X7R; RoHS: Yes; ComponentLink1Description: Datasheet; ComponentLink1URL: https://wmsc.lcsc.com/wmsc/upload/file/pdf/v2/lcsc/2304140030_Walsin-Tech-Corp-1812B225K500CT_C396819.pdf; ComponentLink2Description: JLCPCB Part URL; ComponentLink2URL: https://jlcpcb.com/partdetail/C396819; ComponentLink3Description: LCSC Part URL; ComponentLink3URL: https://lcsc.com/product-detail/Multilayer-Ceramic-Capacitors-MLCC---SMD-SMT_Walsin-Tech-Corp-Walsin-Tech-Corp-1812B225K500CT_C396819.html
footprint CAP-1812 (1812 (4532M) Capacitor)
pins: 1, 2

## 1812B332K202NT
designator C?  Capacitance: 3.3nF  (hidden comment: *)
Capacitor, Ceramic (MLCC), 3.3nF, ±10%, 2kV, ±10%, SMD 1812; Manufacturer: FH(Guangdong Fenghua Advanced Tech); Manufacturer Part Number: 1812B332K202NT; Package Size: 1812; JLCPCB Basic Part: No; JLCPCB Part Number: C967613; Supplier 1: LCSC; Category: Capacitors - MLCC; Supplier Part Number 1: C967613; Tolerance: ±10%; Voltage Rating: 2kV; RoHS: Yes; ComponentLink1Description: Datasheet; ComponentLink1URL: https://wmsc.lcsc.com/wmsc/upload/file/pdf/v2/lcsc/2304140030_FH--Guangdong-Fenghua-Advanced-Tech-1812B332K202NT_C967613.pdf; ComponentLink2Description: JLCPCB Part URL; ComponentLink2URL: https://jlcpcb.com/partdetail/C967613; ComponentLink3Description: LCSC Part URL; ComponentLink3URL: https://lcsc.com/product-detail/Multilayer-Ceramic-Capacitors-MLCC---SMD-SMT_FH-Guangdong-Fenghua-Advanced-Tech-FH-Guangdong-Fenghua-Advanced-Tech-1812B332K202NT_C967613.html
footprint CAP-1812 (1812 (4532M) Capacitor)
pins: 1, 2

## 1812B334K251NT
designator C?  Capacitance: 330nF  (hidden comment: *)
Capacitor, Ceramic (MLCC), 330nF, ±10%, 250V, X7R, ±10%, SMD 1812; Manufacturer: FH (Guangdong Fenghua Advanced Tech); Manufacturer Part Number: 1812B334K251NT; Package Size: 1812; JLCPCB Basic Part: No; JLCPCB Part Number: C3037689; Supplier 1: LCSC; Category: Capacitors - MLCC; Supplier Part Number 1: C3037689; Tolerance: ±10%; Voltage Rating: 250V; Temperature Coefficient: X7R; RoHS: Yes; ComponentLink1Description: Datasheet; ComponentLink1URL: https://wmsc.lcsc.com/wmsc/upload/file/pdf/v2/lcsc/2206171645_FH--Guangdong-Fenghua-Advanced-Tech-1812B334K251NT_C3037689.pdf; ComponentLink2Description: JLCPCB Part URL; ComponentLink2URL: https://jlcpcb.com/partdetail/C3037689; ComponentLink3Description: LCSC Part URL; ComponentLink3URL: https://lcsc.com/product-detail/Multilayer-Ceramic-Capacitors-MLCC---SMD-SMT_FH-Guangdong-Fenghua-Advanced-Tech-FH-Guangdong-Fenghua-Advanced-Tech-1812B334K251NT_C3037689.html
footprint CAP-1812 (1812 (4532M) Capacitor)
pins: 1, 2

## 1812B394K251CT
designator C?  Capacitance: 390nF  (hidden comment: *)
Capacitor, Ceramic (MLCC), 390nF, ±10%, 250V, X7R, ±10%, SMD 1812; Manufacturer: Walsin Tech Corp; Manufacturer Part Number: 1812B394K251CT; Package Size: 1812; JLCPCB Basic Part: No; JLCPCB Part Number: C384708; Supplier 1: LCSC; Category: Capacitors - MLCC; Supplier Part Number 1: C384708; Tolerance: ±10%; Voltage Rating: 250V; Temperature Coefficient: X7R; RoHS: Yes; ComponentLink1Description: Datasheet; ComponentLink1URL: https://wmsc.lcsc.com/wmsc/upload/file/pdf/v2/lcsc/2304140030_Walsin-Tech-Corp-1812B394K251CT_C384708.pdf; ComponentLink2Description: JLCPCB Part URL; ComponentLink2URL: https://jlcpcb.com/partdetail/C384708; ComponentLink3Description: LCSC Part URL; ComponentLink3URL: https://lcsc.com/product-detail/Multilayer-Ceramic-Capacitors-MLCC---SMD-SMT_Walsin-Tech-Corp-Walsin-Tech-Corp-1812B394K251CT_C384708.html
footprint CAP-1812 (1812 (4532M) Capacitor)
pins: 1, 2

## 1812B471K102CT
designator C?  Capacitance: 470pF  (hidden comment: *)
Capacitor, Ceramic (MLCC), 470pF, ±10%, 1kV, X7R, ±10%, SMD 1812; Manufacturer: Walsin Tech Corp; Manufacturer Part Number: 1812B471K102CT; Package Size: 1812; JLCPCB Basic Part: No; JLCPCB Part Number: C2909459; Supplier 1: LCSC; Category: Capacitors - MLCC; Supplier Part Number 1: C2909459; Tolerance: ±10%; Voltage Rating: 1kV; Temperature Coefficient: X7R; RoHS: Yes; ComponentLink1Description: Datasheet; ComponentLink1URL: https://wmsc.lcsc.com/wmsc/upload/file/pdf/v2/lcsc/2110272130_Walsin-Tech-Corp-1812B471K102CT_C2909459.pdf; ComponentLink2Description: JLCPCB Part URL; ComponentLink2URL: https://jlcpcb.com/partdetail/C2909459; ComponentLink3Description: LCSC Part URL; ComponentLink3URL: https://lcsc.com/product-detail/Multilayer-Ceramic-Capacitors-MLCC---SMD-SMT_Walsin-Tech-Corp-Walsin-Tech-Corp-1812B471K102CT_C2909459.html
footprint CAP-1812 (1812 (4532M) Capacitor)
pins: 1, 2

## 1812B472K102CT
designator C?  Capacitance: 4.7nF  (hidden comment: *)
Capacitor, Ceramic (MLCC), 4.7nF, ±10%, 1kV, X7R, ±10%, SMD 1812; Manufacturer: Walsin Tech Corp; Manufacturer Part Number: 1812B472K102CT; Package Size: 1812; JLCPCB Basic Part: No; JLCPCB Part Number: C880854; Supplier 1: LCSC; Category: Capacitors - MLCC; Supplier Part Number 1: C880854; Tolerance: ±10%; Voltage Rating: 1kV; Temperature Coefficient: X7R; RoHS: Yes; ComponentLink1Description: Datasheet; ComponentLink1URL: https://wmsc.lcsc.com/wmsc/upload/file/pdf/v2/lcsc/2304140030_Walsin-Tech-Corp-1812B472K102CT_C880854.pdf; ComponentLink2Description: JLCPCB Part URL; ComponentLink2URL: https://jlcpcb.com/partdetail/C880854; ComponentLink3Description: LCSC Part URL; ComponentLink3URL: https://lcsc.com/product-detail/Multilayer-Ceramic-Capacitors-MLCC---SMD-SMT_Walsin-Tech-Corp-Walsin-Tech-Corp-1812B472K102CT_C880854.html
footprint CAP-1812 (1812 (4532M) Capacitor)
pins: 1, 2

## 1812B472K202AT
designator C?  Capacitance: 4.7nF  (hidden comment: *)
Capacitor, Ceramic (MLCC), 4.7nF, 2kV, X7R, SMD 1812; Manufacturer: FH (Guangdong Fenghua Advanced Tech); Manufacturer Part Number: 1812B472K202AT; Package Size: 1812; JLCPCB Basic Part: No; JLCPCB Part Number: C3037690; Supplier 1: LCSC; Category: Capacitors - MLCC; Supplier Part Number 1: C3037690; Voltage Rating: 2kV; Temperature Coefficient: X7R; RoHS: Yes; ComponentLink1Description: Datasheet; ComponentLink1URL: https://wmsc.lcsc.com/wmsc/upload/file/pdf/v2/lcsc/2206171645_FH--Guangdong-Fenghua-Advanced-Tech-1812B472K202AT_C3037690.pdf; ComponentLink2Description: JLCPCB Part URL; ComponentLink2URL: https://jlcpcb.com/partdetail/C3037690; ComponentLink3Description: LCSC Part URL; ComponentLink3URL: https://lcsc.com/product-detail/Multilayer-Ceramic-Capacitors-MLCC---SMD-SMT_FH-Guangdong-Fenghua-Advanced-Tech-FH-Guangdong-Fenghua-Advanced-Tech-1812B472K202AT_C3037690.html
footprint CAP-1812 (1812 (4532M) Capacitor)
pins: 1, 2

## 1812B472K202CT
designator C?  Capacitance: 4.7nF  (hidden comment: *)
Capacitor, Ceramic (MLCC), 4.7nF, ±10%, 2kV, X7R, ±10%, SMD 1812; Manufacturer: Walsin Tech Corp; Manufacturer Part Number: 1812B472K202CT; Package Size: 1812; JLCPCB Basic Part: No; JLCPCB Part Number: C304036; Supplier 1: LCSC; Category: Capacitors - MLCC; Supplier Part Number 1: C304036; Tolerance: ±10%; Voltage Rating: 2kV; Temperature Coefficient: X7R; RoHS: Yes; ComponentLink1Description: Datasheet; ComponentLink1URL: https://wmsc.lcsc.com/wmsc/upload/file/pdf/v2/lcsc/2304231850_Walsin-Tech-Corp-1812B472K202CT_C304036.pdf; ComponentLink2Description: JLCPCB Part URL; ComponentLink2URL: https://jlcpcb.com/partdetail/C304036; ComponentLink3Description: LCSC Part URL; ComponentLink3URL: https://lcsc.com/product-detail/Multilayer-Ceramic-Capacitors-MLCC---SMD-SMT_Walsin-Tech-Corp-Walsin-Tech-Corp-1812B472K202CT_C304036.html
footprint CAP-1812 (1812 (4532M) Capacitor)
pins: 1, 2

## 1812B472K202NT
designator C?  Capacitance: 4.7nF  (hidden comment: *)
Capacitor, Ceramic (MLCC), 4.7nF, ±10%, 2kV, ±10%, SMD 1812; Manufacturer: FH(Guangdong Fenghua Advanced Tech); Manufacturer Part Number: 1812B472K202NT; Package Size: 1812; JLCPCB Basic Part: No; JLCPCB Part Number: C1322396; Supplier 1: LCSC; Category: Capacitors - MLCC; Supplier Part Number 1: C1322396; Tolerance: ±10%; Voltage Rating: 2kV; RoHS: Yes; ComponentLink1Description: Datasheet; ComponentLink1URL: https://wmsc.lcsc.com/wmsc/upload/file/pdf/v2/lcsc/2304140030_FH--Guangdong-Fenghua-Advanced-Tech-1812B472K202NT_C1322396.pdf; ComponentLink2Description: JLCPCB Part URL; ComponentLink2URL: https://jlcpcb.com/partdetail/C1322396; ComponentLink3Description: LCSC Part URL; ComponentLink3URL: https://lcsc.com/product-detail/Multilayer-Ceramic-Capacitors-MLCC---SMD-SMT_FH-Guangdong-Fenghua-Advanced-Tech-FH-Guangdong-Fenghua-Advanced-Tech-1812B472K202NT_C1322396.html
footprint CAP-1812 (1812 (4532M) Capacitor)
pins: 1, 2